# EAGLE library part AP65450SP-13 (library ASME2020_parts)
AP65450 4A, 18V, 650kHz ADAPTIVE COT STEP-DOWN CONVERTER
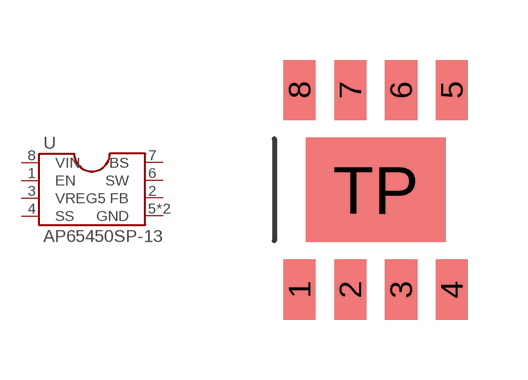
[diagram p0: symbol with the pads of SO-8EP; footprint SO-8EP]

Designator prefix -

## AP65450SP-13  [SO-8EP]
1  EN
2  FB
3  VREG5
4  SS
5  GND
6  SW
7  BS
8  VIN
TP  GND

## Footprint SO-8EP (pad centres in mm)
smd 0.802 x 1.505: 1 -1.905,-2.498; 2 -0.635,-2.498; 3 0.635,-2.498; 4 1.905,-2.498; 5 1.905,2.498; 6 0.635,2.498; 7 -0.635,2.498; 8 -1.905,2.498
smd 3.502 x 2.613: TP 0,0